# EAGLE library part LTC3105-MSOP12 (library X893)
LTC3105 - 400mA Step-Up DC/DC Converter with Maximum Power Point Control and 250mV Start-Up Product page <http://www.linear.com/product/LTC3105>
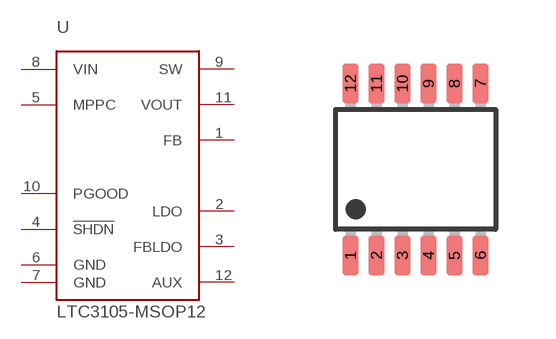
[diagram p180: symbol with the pads of MSOP12; footprint MSOP12]

Designator prefix U

## LTC3105-MSOP12  [MSOP12]
1  FB
2  LDO
3  FBLDO
4  !SHDN
5  MPPC
6  GND
7  GND
8  VIN
9  SW
10  PGOOD
11  VOUT
12  AUX

## Footprint MSOP12 (pad centres in mm)
http://www.linear.com/docs/29942
smd 0.4 x 1: 1 -1.625,-2.15; 2 -0.975,-2.15; 3 -0.325,-2.15; 4 0.325,-2.15; 5 0.975,-2.15; 6 1.625,-2.15; 7 1.625,2.15; 8 0.975,2.15; 9 0.325,2.15; 10 -0.325,2.15; 11 -0.975,2.15; 12 -1.625,2.15